# Altium schematic symbol library 78931812515.SchLib: 1 symbol
Pins are listed as number, name and electrical type; pins without a type are passive.

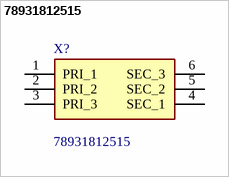
[diagram p0: symbol 78931812515]

## 78931812515
designator X?
WE-PSPA Push Pull & Gate Drive Transformer NEW; Manufacturer_Name: Wurth Elektronik; Geometry.Height: 4.1mm; Manufacturer_Part_Number: 78931812515; Mouser Part Number: *; Mouser Price/Stock: *; Arrow Part Number: *; Arrow Price/Stock: *; Datasheet Link: https://www.we-online.com/components/products/datasheet/78931812515.pdf
footprint 78931812515
pins: 1 PRI_1, 2 PRI_2, 3 PRI_3, 4 SEC_1, 5 SEC_2, 6 SEC_3